# EAGLE library part NSP-1600-36 (library fcch_eagle_parts_metal_mill)
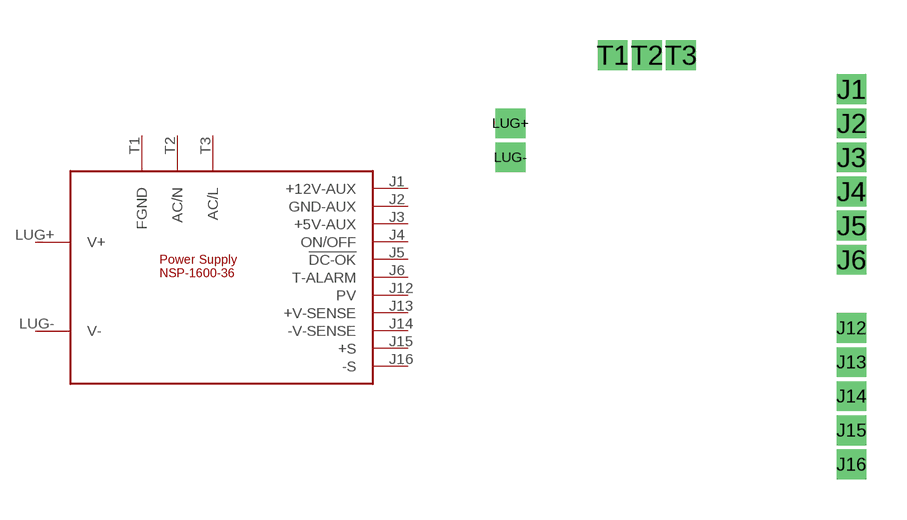
[diagram p2: symbol with the pads of NSP-1600-36; footprint NSP-1600-36]

Designator prefix -

## NSP-1600-36  [NSP-1600-36]
J1  +12V-AUX
J2  GND-AUX
J3  +5V-AUX
J4  ON/OFF
J5  !DC-OK
J6  T-ALARM
J12  PV
J13  +V-SENSE
J14  -V-SENSE
J15  +S
J16  -S
LUG+  V+
LUG-  V-
T1  FGND
T2  AC/N
T3  AC/L

## Footprint NSP-1600-36 (pad centres in mm)
drill 0.6 square: J1 3.81,1.27; J2 3.81,0; J3 3.81,-1.27; J4 3.81,-2.54; J5 3.81,-3.81; J6 3.81,-5.08; J12 3.81,-7.62; J13 3.81,-8.89; J14 3.81,-10.16; J15 3.81,-11.43; J16 3.81,-12.7; LUG+ -8.89,0; LUG- -8.89,-1.27; T1 -5.08,2.54; T2 -3.81,2.54; T3 -2.54,2.54